# Altium footprint library PCBLibrary_RLC.PcbLib: 8 footprints
Each footprint in its own frame and in the unit in brackets; x right, y up, seen from the top. Pads: shape width x height; smd on the part's side, far side on the other; paste and mask are expansions set on the pad; w line width, h text height; cw(c..) or ccw(c..) is an arc to the next point about the centre after c.
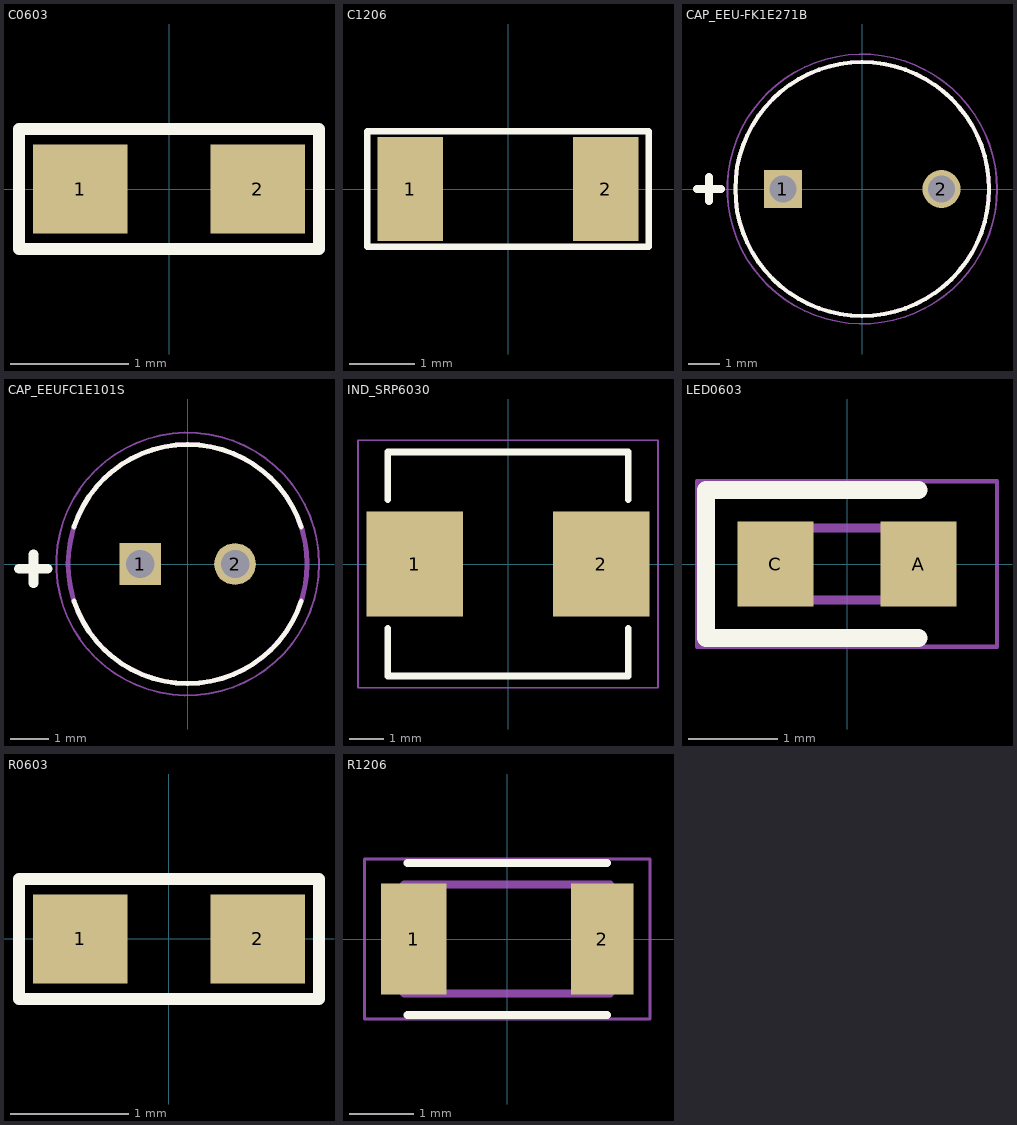
[diagram p0: the footprints below, top view; thin cyan lines are the x and y axes]

## C0603 [mm] "CAPACITOR SMD 0603"
height 0.9
pads (2):
  rect 0.8x0.75 smd: 1(-0.75,0) 2(0.75,0)
Top Overlay:
  lines w0.1: -1.27,-0.508 1.27,-0.508 1.27,0.508 -1.27,0.508 -1.27,-0.508
3D body "User Library-0603(1608M) Cap.STEP": height 0.79, standoff 0, extent -1,-0.394 1,0.394

## C1206 [mm] "CAPACITOR SMD 1206"
height 0.94
pads (2):
  rect 1x1.6 smd: 1(-1.5,0) 2(1.5,0)
Top Overlay:
  lines w0.1: -2.159,-0.889 2.159,-0.889 2.159,0.889 -2.159,0.889 -2.159,-0.889
3D body "User Library-1206(3216M) Cap.STEP": height 1.53, standoff 0, extent -2,-0.8 2,0.8

## CAP_EEU-FK1E271B [mm]
height 13.5
pads (2):
  rect 1.2x1.2 hole 0.85: 1(-2.5,0)
  round 1.2 hole 0.85: 2(2.5,0)
Top Overlay:
  circle w0.127: c0,0 r4
  lines w0.254: -5.207,0 -4.445,0 ; -4.826,-0.381 -4.826,0.381
Mechanical 13:
  circle w0.127: c0,0 r4
Mechanical 15:
  circle w0.05: c0,0 r4.25
3D body "step_temp.STEP": height 11.5, standoff -17, extent -4,-4 4,4

## CAP_EEUFC1E101S [mm]
height 13.5
pads (2):
  rect 1.1x1.1 hole 0.75: 1(-1.25,0)
  round 1.1 hole 0.75: 2(1.25,0)
Top Overlay:
  lines w0.127: -2.996,-0.973 ccw(c0,0) 2.996,-0.973 ; -2.996,0.973 cw(c0,0) 2.996,0.973
  lines w0.254: -4.445,-0.127 -3.683,-0.127 ; -4.064,-0.508 -4.064,0.254
Mechanical 13:
  circle w0.127: c0,0 r3.15
Mechanical 15:
  circle w0.05: c0,0 r3.463
3D body "step_temp.STEP": height 11.2, standoff -17, extent -3.15,-3.149 3.15,3.149

## IND_SRP6030 [mm]
pads (2):
  rect 2.85x3.1 smd: 1(-2.75,0) 2(2.75,0)
Top Overlay:
  lines w0.2: -3.55,-1.905 -3.55,-3.3 3.55,-3.3 ; -3.55,1.905 -3.55,3.3 ; -3.55,3.3 3.55,3.3 ; 3.55,1.905 3.55,3.3 ; 3.55,-3.3 3.55,-1.905
Mechanical 20:
  lines w0.05: -4.425,-3.65 4.425,-3.65 4.425,3.65 -4.425,3.65 -4.425,-3.65
3D body "SRP6030WA-220M.stp": height 3, standoff 0, extent -3.55,-3.3 3.55,3.3

## LED0603 [mm]
pads (2):
  rect 0.85x0.95 smd: A(0.8,0) C(-0.8,0)
Top Overlay:
  lines w0.2: 0.8,-0.825 -1.575,-0.825 -1.575,0.825 0.8,0.825
Mechanical 15:
  lines w0.1: -0.8,0.133 -0.533,0.4 ; -0.8,-0.4 -0.8,0.4 0.8,0.4 0.8,-0.4 -0.8,-0.4
Mechanical 20:
  lines w0.05: -1.675,-0.925 -1.675,0.925 1.675,0.925 1.675,-0.925 -1.675,-0.925
3D body "SML-D12U1WT86.stp": height 0.54, standoff -0.02, extent -0.8,-0.4 0.8,0.4

## R0603 [mm] "RESISTOR SMD 0603"
height 0.45
pads (2):
  rect 0.8x0.75 smd: 1(-0.75,0) 2(0.75,0)
Top Overlay:
  lines w0.1: -1.27,-0.508 1.27,-0.508 1.27,0.508 -1.27,0.508 -1.27,-0.508
3D body "User Library-0603(1608M) Res.STEP": height 0.79, standoff 0, extent -1,-0.394 1,0.394

## R1206 [mm]
height 1.1
pads (2):
  rect 1.02x1.73 smd: 1(-1.455,0)
  rect 0.97x1.73 smd: 2(1.48,0)
Top Overlay:
  lines w0.127: -1.55,-1.18 1.55,-1.18 ; -1.55,1.18 1.55,1.18
Mechanical 13:
  lines w0.127: -1.6,-0.85 1.6,-0.85 1.6,0.85 -1.6,0.85 -1.6,-0.85
Mechanical 15:
  lines w0.05: -2.22,-1.244 2.22,-1.244 2.22,1.244 -2.22,1.244 -2.22,-1.244
3D body "ERJ-8GEY0R00V.STEP": height 0.7, standoff 0, extent -1.6,-0.8 1.6,0.8